# Altium schematic symbol library FUSE2.SCHLIB: 1 symbol
Pins are listed as number, name and electrical type; pins without a type are passive.

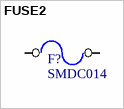
[diagram p0: symbol FUSE2]

## FUSE2
designator F?, comment SMDC014
footprint miniSMDC014
pins: 1, 2